# Altium footprint library LPF-0603-0.8mm.PcbLib: 1 footprints
Each footprint in its own frame and in the unit in brackets; x right, y up, seen from the top. Pads: shape width x height; smd on the part's side, far side on the other; paste and mask are expansions set on the pad; w line width, h text height; cw(c..) or ccw(c..) is an arc to the next point about the centre after c.
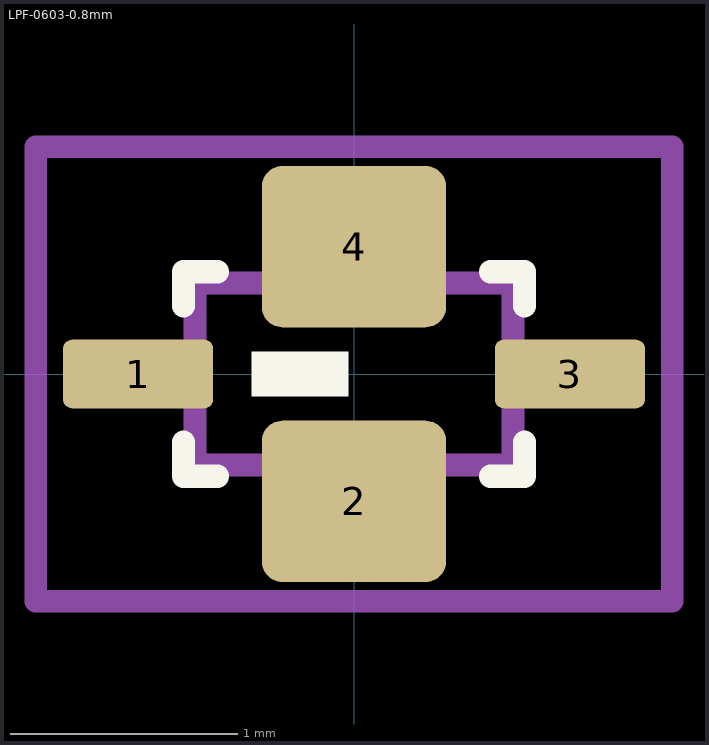
[diagram p0: the footprint, top view; thin cyan lines are the x and y axes]

## LPF-0603-0.8mm [mm]
height 0.8
pads (4):
  rrect25% 0.66x0.302 smd mask+0.075: 1(-0.95,0) 3(0.95,0)
  rrect25% 0.81x0.71 smd mask+0.075: 2(0,-0.56) 4(0,0.56)
Top Overlay:
  rectangle: -0.45,-0.1 -0.025,0.1
  lines w0.102: -0.75,-0.3 -0.75,-0.45 -0.6,-0.45 ; -0.75,0.3 -0.75,0.45 -0.6,0.45 ; 0.6,0.45 0.75,0.45 0.75,0.3 ; 0.6,-0.45 0.75,-0.45 0.75,-0.3
Mechanical 1:
  text ".Designator" at -1.1,-0.3 h1
Mechanical 13:
  lines w0.102: -0.7,0.4 0.7,0.4 ; -0.69,0.4 -0.7,0.39 -0.7,-0.4 ; -0.7,-0.4 0.7,-0.4 0.7,0.4 ; -0.7,-0.4 -0.7,-0.4 ; 0.7,0.4 0.7,0.4
Mechanical 15:
  lines w0.1: -1.4,-1 1.4,-1 1.4,1 -1.4,1 -1.4,-1
3D body: height 0.6, standoff 0, extent -0.7,-0.4 0.7,0.4
3D body: height 0.61, standoff -0.01, extent 0.555,-0.15 0.705,0.15
3D body: height 0.61, standoff -0.01, extent -0.705,-0.15 -0.555,0.15
3D body: height 0.61, standoff -0.01, extent -0.35,-0.405 0.35,-0.255
3D body: height 0.61, standoff -0.01, extent -0.35,0.255 0.35,0.405